# Altium footprint library Footprint-Lib-ABahlmann-IC.PcbLib: 79 footprints (part 4 of 5)
Each footprint in its own frame and in the unit in brackets; x right, y up, seen from the top. Pads: shape width x height; smd on the part's side, far side on the other; paste and mask are expansions set on the pad; w line width, h text height; cw(c..) or ccw(c..) is an arc to the next point about the centre after c.
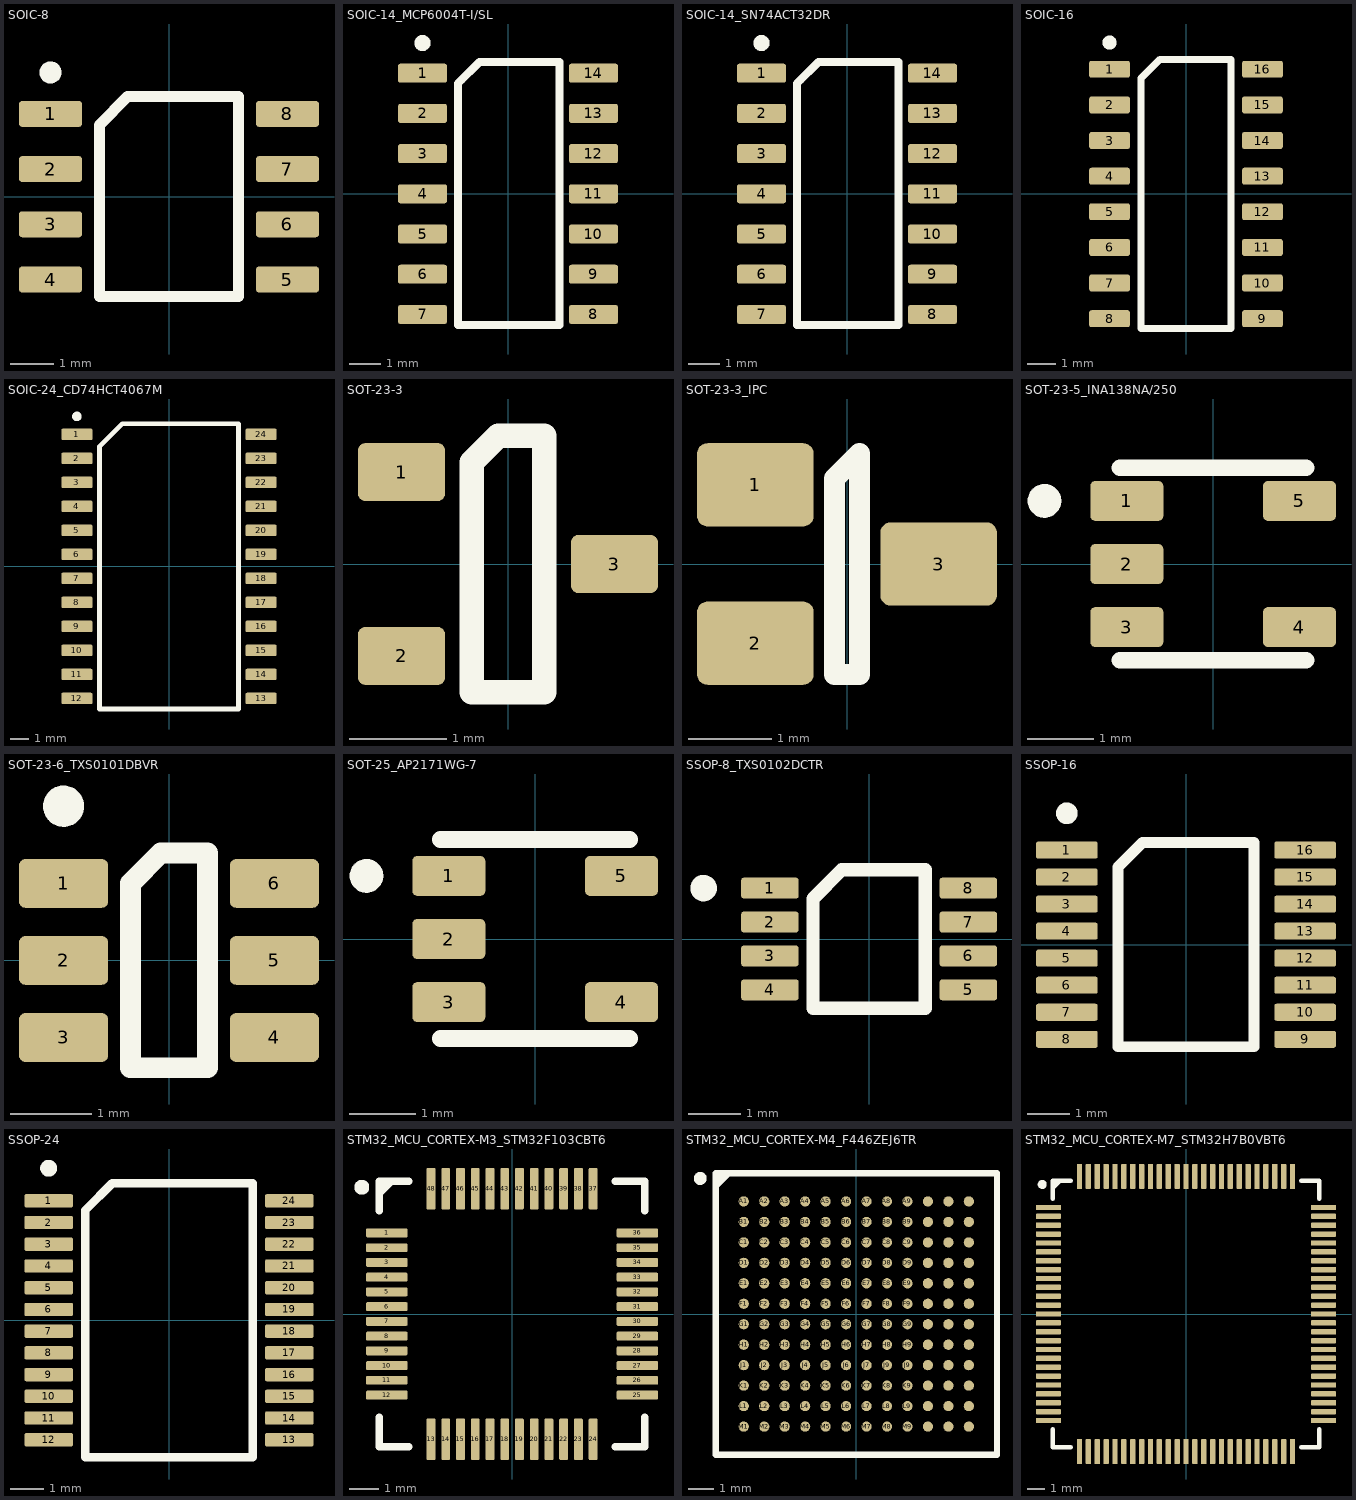
[diagram p3: the footprints below, top view; thin cyan lines are the x and y axes]

## SOIC-8 [mm] "1.27mm pitch"
pads (8):
  rrect25% 1.45x0.6 smd: 1(-2.725,1.905) 2(-2.725,0.635) 3(-2.725,-0.635) 4(-2.725,-1.905) 5(2.725,-1.905) 6(2.725,-0.635) 7(2.725,0.635) 8(2.725,1.905)
Top Overlay:
  circle w0.254: c-2.725,2.857 r0.127
  lines w0.254: -1.6,-2.3 -1.6,1.65 -0.95,2.3 1.6,2.3 1.6,-2.3 -1.6,-2.3 ; -1.5,1.75 ccw(c-1.5,1.75) -1.5,1.75
3D body "SOIC-8.STEP": height 1.51, standoff 0.01, extent -2.95,-2.45 2.95,2.45

## SOIC-14_MCP6004T-I/SL [mm] "Standard (General Purpose) Amplifier 4 Circuit Rail-to-Rail 14-SOIC"
pads (14):
  rrect25% 1.55x0.6 smd mask+0.07: 1(-2.7,3.81) 2(-2.7,2.54) 3(-2.7,1.27) 4(-2.7,0) 5(-2.7,-1.27) 6(-2.7,-2.54) 7(-2.7,-3.81) 8(2.7,-3.81) 9(2.7,-2.54) 10(2.7,-1.27) 11(2.7,0) 12(2.7,1.27) 13(2.7,2.54) 14(2.7,3.81)
Top Overlay:
  circle w0.254: c-2.7,4.763 r0.127
  lines w0.254: -1.575,-4.15 -1.575,3.49 -0.9,4.165 1.625,4.165 1.625,-4.15 -1.575,-4.15 ; -1.475,3.59 ccw(c-1.475,3.59) -1.475,3.59
3D body "MCP6004T-I_SL.STEP": height 1.75, standoff 0, extent -3,-4.325 3,4.325

## SOIC-14_SN74ACT32DR [mm] "OR Gate IC 4 Channel 14-SOIC"
pads (14):
  rrect25% 1.55x0.6 smd mask+0.07: 1(-2.7,3.81) 2(-2.7,2.54) 3(-2.7,1.27) 4(-2.7,0) 5(-2.7,-1.27) 6(-2.7,-2.54) 7(-2.7,-3.81) 8(2.7,-3.81) 9(2.7,-2.54) 10(2.7,-1.27) 11(2.7,0) 12(2.7,1.27) 13(2.7,2.54) 14(2.7,3.81)
Top Overlay:
  circle w0.254: c-2.7,4.763 r0.127
  lines w0.254: -1.575,-4.15 1.625,-4.15 1.625,4.165 -0.9,4.165 -1.575,3.49 -1.575,-4.15 ; -1.475,3.59 ccw(c-1.475,3.59) -1.475,3.59
3D body "SN74ACT32DR.stp": height 1.75, standoff 0, extent -3.013,-4.325 3.013,4.325

## SOIC-16 [mm]
pads (16):
  rrect25% 1.45x0.6 smd: 1(-2.725,4.445) 2(-2.725,3.175) 3(-2.725,1.905) 4(-2.725,0.635) 5(-2.725,-0.635) 6(-2.725,-1.905) 7(-2.725,-3.175) 8(-2.725,-4.445) 9(2.725,-4.445) 10(2.725,-3.175) 11(2.725,-1.905) 12(2.725,-0.635) 13(2.725,0.635) 14(2.725,1.905) 15(2.725,3.175) 16(2.725,4.445)
Top Overlay:
  circle w0.254: c-2.725,5.397 r0.127
  lines w0.254: -1.6,-4.8 -1.6,4.125 -0.925,4.8 1.6,4.8 1.6,-4.8 -1.6,-4.8 ; -1.5,4.225 ccw(c-1.5,4.225) -1.5,4.225
3D body "SOIC-16.STEP": height 1.5, standoff 0, extent -2.95,-4.95 2.95,4.95

## SOIC-24_CD74HCT4067M [mm] "1 Circuit IC Switch 16:1 180Ohm 24-SOIC"
pads (24):
  rrect25% 1.65x0.6 smd: 1(-4.875,6.985) 2(-4.875,5.715) 3(-4.875,4.445) 4(-4.875,3.175) 5(-4.875,1.905) 6(-4.875,0.635) 7(-4.875,-0.635) 8(-4.875,-1.905) 9(-4.875,-3.175) 10(-4.875,-4.445) 11(-4.875,-5.715) 12(-4.875,-6.985) 13(4.875,-6.985) 14(4.875,-5.715) 15(4.875,-4.445) 16(4.875,-3.175) 17(4.875,-1.905) 18(4.875,-0.635) 19(4.875,0.635) 20(4.875,1.905) 21(4.875,3.175) 22(4.875,4.445) 23(4.875,5.715) 24(4.875,6.985)
Top Overlay:
  circle w0.254: c-4.875,7.938 r0.127
  lines w0.254: -3.675,-7.55 3.675,-7.55 3.675,7.55 -2.475,7.55 -3.675,6.35 -3.675,-7.55
3D body "CD74HCT4067M.STEP": height 2.65, standoff 0, extent -5.15,-7.7 5.15,7.7

## SOT-23-3 [mm]
pads (3):
  rrect25% 0.9x0.6 smd: 1(-1.1,0.95) 2(-1.1,-0.95) 3(1.1,0)
Top Overlay:
  lines w0.254: -0.375,-1.325 -0.375,1.05 -0.1,1.325 0.375,1.325 0.375,-1.325 -0.375,-1.325
3D body "SOT23-3.stp": height 1.1, standoff 0, extent -1.25,-1.5 1.25,1.5

## SOT-23-3_IPC [mm]
pads (3):
  rrect25% 1.4x1 smd: 1(-1.1,0.95) 2(-1.1,-0.95) 3(1.1,0)
Top Overlay:
  lines w0.254: -0.15,-1.325 -0.15,1.025 0.15,1.325 0.15,-1.325 -0.15,-1.325
3D body "SOT23-3.stp": height 1.1, standoff 0, extent -1.25,-1.5 1.25,1.5

## SOT-23-5_INA138NA/250 [mm] "Current Monitor Regulator High-Side SOT-23-5"
pads (5):
  rrect25% 1.1x0.6 smd mask+0.05: 1(-1.3,0.95) 2(-1.3,0) 3(-1.3,-0.95) 4(1.3,-0.95) 5(1.3,0.95)
Top Overlay:
  circle w0.254: c-2.54,0.95 r0.127
  lines w0.254: -1.4,-1.45 1.4,-1.45 ; -1.4,1.45 1.4,1.45
3D body "INA138NA_250.STEP": height 1.45, standoff 0, extent -1.4,-1.45 1.4,1.45

## SOT-23-6_TXS0101DBVR [mm] "Voltage Level Translator Bidirectional 1 Circuit 1 Channel 24Mbps SOT-23-6"
pads (6):
  rrect25% 1.1x0.6 smd mask+0.05: 1(-1.3,0.95) 2(-1.3,0) 3(-1.3,-0.95) 4(1.3,-0.95) 5(1.3,0) 6(1.3,0.95)
Top Overlay:
  circle w0.254: c-1.3,1.903 r0.127
  lines w0.254: -0.475,-1.325 -0.475,0.95 -0.1,1.325 0.475,1.325 0.475,-1.325 -0.475,-1.325
3D body "TXS0101DBVR.STEP": height 1.45, standoff 0, extent -1.4,-1.45 1.4,1.45

## SOT-25_AP2171WG-7 [mm] "Power Switch/Driver 1:1 P-Channel 1A SOT-25"
pads (5):
  rrect25% 1.1x0.6 smd mask+0.05: 1(-1.3,0.95) 2(-1.3,0) 3(-1.3,-0.95) 4(1.3,-0.95) 5(1.3,0.95)
Top Overlay:
  circle w0.254: c-2.54,0.95 r0.127
  lines w0.254: -1.425,-1.5 1.425,-1.5 ; -1.425,1.5 1.425,1.5
3D body "AP2171WG-7.stp": height 1.4, standoff 0, extent -1.425,-1.5 1.425,1.5

## SSOP-8_TXS0102DCTR [mm]
pads (8):
  rrect25% 1.1x0.4 smd mask+0.07: 1(-1.9,0.975) 2(-1.9,0.325) 3(-1.9,-0.325) 4(-1.9,-0.975) 5(1.9,-0.975) 6(1.9,-0.325) 7(1.9,0.325) 8(1.9,0.975)
Top Overlay:
  circle w0.254: c-3.17,0.975 r0.127
  lines w0.254: -1.075,-1.325 1.075,-1.325 1.075,1.325 -0.525,1.325 -1.075,0.775 -1.075,-1.325
3D body "TXS0102DCTR.STEP": height 1.3, standoff 0, extent -2,-1.475 2,1.475

## SSOP-16 [mm] "USB Bridge, USB to UART USB 2.0 UART Interface 16-SSOP"
pads (16):
  rrect25% 1.45x0.4 smd mask+0.025: 1(-2.8,2.223) 2(-2.8,1.588) 3(-2.8,0.953) 4(-2.8,0.318) 5(-2.8,-0.318) 6(-2.8,-0.953) 7(-2.8,-1.588) 8(-2.8,-2.223) 9(2.8,-2.223) 10(2.8,-1.588) 11(2.8,-0.953) 12(2.8,-0.318) 13(2.8,0.318) 14(2.8,0.953) 15(2.8,1.588) 16(2.8,2.223)
Top Overlay:
  circle w0.254: c-2.8,3.087 r0.127
  lines w0.254: -1.6,-2.4 -1.6,1.825 -1.025,2.4 1.6,2.4 1.6,-2.4 -1.6,-2.4 ; -1.5,1.925 ccw(c-1.5,1.925) -1.5,1.925
3D body "ft230xs-r.stp": height 1.55, standoff 0, extent -2.997,-2.45 2.997,2.452

## SSOP-24 [mm]
pads (24):
  rrect25% 1.45x0.4 smd mask+0.025: 1(-3.6,3.575) 2(-3.6,2.925) 3(-3.6,2.275) 4(-3.6,1.625) 5(-3.6,0.975) 6(-3.6,0.325) 7(-3.6,-0.325) 8(-3.6,-0.975) 9(-3.6,-1.625) 10(-3.6,-2.275) 11(-3.6,-2.925) 12(-3.6,-3.575) 13(3.6,-3.575) 14(3.6,-2.925) 15(3.6,-2.275) 16(3.6,-1.625) 17(3.6,-0.975) 18(3.6,-0.325) 19(3.6,0.325) 20(3.6,0.975) 21(3.6,1.625) 22(3.6,2.275) 23(3.6,2.925) 24(3.6,3.575)
Top Overlay:
  circle w0.254: c-3.6,4.55 r0.127
  lines w0.254: -2.5,-4.1 2.5,-4.1 2.5,4.1 -1.7,4.1 -2.5,3.3 -2.5,-4.1
3D body "CD74HC4067SM96.stp": height 1.85, standoff -0.01, extent -3.913,-4.1 3.913,4.1

## STM32_MCU_CORTEX-M3_STM32F103CBT6 [mm] "ARM® Cortex®-M3 STM32F1 Microcontroller IC 32-Bit 72MHz 128KB (128K x 8) FLASH"
pads (48):
  rrect25% 1.4x0.3 smd mask+0.05: 1(-4.25,2.75) 2(-4.25,2.25) 3(-4.25,1.75) 4(-4.25,1.25) 5(-4.25,0.75) 6(-4.25,0.25) 7(-4.25,-0.25) 8(-4.25,-0.75) 9(-4.25,-1.25) 10(-4.25,-1.75) 11(-4.25,-2.25) 12(-4.25,-2.75) 25(4.25,-2.75) 26(4.25,-2.25) 27(4.25,-1.75) 28(4.25,-1.25) 29(4.25,-0.75) 30(4.25,-0.25) 31(4.25,0.25) 32(4.25,0.75) 33(4.25,1.25) 34(4.25,1.75) 35(4.25,2.25) 36(4.25,2.75)
  rrect25% 0.3x1.4 smd mask+0.05: 13(-2.75,-4.25) 14(-2.25,-4.25) 15(-1.75,-4.25) 16(-1.25,-4.25) 17(-0.75,-4.25) 18(-0.25,-4.25) 19(0.25,-4.25) 20(0.75,-4.25) 21(1.25,-4.25) 22(1.75,-4.25) 23(2.25,-4.25) 24(2.75,-4.25) 37(2.75,4.25) 38(2.25,4.25) 39(1.75,4.25) 40(1.25,4.25) 41(0.75,4.25) 42(0.25,4.25) 43(-0.25,4.25) 44(-0.75,4.25) 45(-1.25,4.25) 46(-1.75,4.25) 47(-2.25,4.25) 48(-2.75,4.25)
Top Overlay:
  circle w0.254: c-5.1,4.3 r0.127
  lines w0.254: -4.5,-3.5 -4.5,-4.5 -3.5,-4.5 ; -4.5,3.5 -4.5,4.5 -3.5,4.5 ; -4.5,4.1 -4.1,4.5 ; 3.5,-4.5 4.5,-4.5 4.5,-3.5 ; 3.5,4.5 4.5,4.5 4.5,3.5
3D body "STM32F103CBT6.stp": height 1.6, standoff 0, extent -4.5,-4.5 4.5,4.5

## STM32_MCU_CORTEX-M4_F446ZEJ6TR [mm] "ARM® Cortex®-M4 STM32F4 Microcontroller IC 32-Bit 180MHz 512KB (512K x 8) FLASH 144-UFBGA (10x10)"
pads (144):
  round 0.4 smd mask+0.075: A1(-4.4,4.4) A2(-3.6,4.4) A3(-2.8,4.4) A4(-2,4.4) A5(-1.2,4.4) A6(-0.4,4.4) A7(0.4,4.4) A8(1.2,4.4) A9(2,4.4) A10(2.8,4.4) A11(3.6,4.4) A12(4.4,4.4) B1(-4.4,3.6) B2(-3.6,3.6) B3(-2.8,3.6) B4(-2,3.6) B5(-1.2,3.6) B6(-0.4,3.6) B7(0.4,3.6) B8(1.2,3.6) B9(2,3.6) B10(2.8,3.6) B11(3.6,3.6) B12(4.4,3.6) C1(-4.4,2.8) C2(-3.6,2.8) C3(-2.8,2.8) C4(-2,2.8) C5(-1.2,2.8) C6(-0.4,2.8) C7(0.4,2.8) C8(1.2,2.8) C9(2,2.8) C10(2.8,2.8) C11(3.6,2.8) C12(4.4,2.8) D1(-4.4,2) D2(-3.6,2) D3(-2.8,2) D4(-2,2) D5(-1.2,2) D6(-0.4,2) D7(0.4,2) D8(1.2,2) D9(2,2) D10(2.8,2) D11(3.6,2) D12(4.4,2) E1(-4.4,1.2) E2(-3.6,1.2) E3(-2.8,1.2) E4(-2,1.2) E5(-1.2,1.2) E6(-0.4,1.2) E7(0.4,1.2) E8(1.2,1.2) E9(2,1.2) E10(2.8,1.2) E11(3.6,1.2) E12(4.4,1.2) F1(-4.4,0.4) F2(-3.6,0.4) F3(-2.8,0.4) F4(-2,0.4) F5(-1.2,0.4) F6(-0.4,0.4) F7(0.4,0.4) F8(1.2,0.4) F9(2,0.4) F10(2.8,0.4) F11(3.6,0.4) F12(4.4,0.4) G1(-4.4,-0.4) G2(-3.6,-0.4) G3(-2.8,-0.4) G4(-2,-0.4) G5(-1.2,-0.4) G6(-0.4,-0.4) G7(0.4,-0.4) G8(1.2,-0.4) G9(2,-0.4) G10(2.8,-0.4) G11(3.6,-0.4) G12(4.4,-0.4) H1(-4.4,-1.2) H2(-3.6,-1.2) H3(-2.8,-1.2) H4(-2,-1.2) H5(-1.2,-1.2) H6(-0.4,-1.2) H7(0.4,-1.2) H8(1.2,-1.2) H9(2,-1.2) H10(2.8,-1.2) H11(3.6,-1.2) H12(4.4,-1.2) J1(-4.4,-2) J2(-3.6,-2) J3(-2.8,-2) J4(-2,-2) J5(-1.2,-2) J6(-0.4,-2) J7(0.4,-2) J9(1.2,-2) J9(2,-2) J10(2.8,-2) J11(3.6,-2) J12(4.4,-2) K1(-4.4,-2.8) K2(-3.6,-2.8) K3(-2.8,-2.8) K4(-2,-2.8) K5(-1.2,-2.8) K6(-0.4,-2.8) K7(0.4,-2.8) K8(1.2,-2.8) K9(2,-2.8) K10(2.8,-2.8) K11(3.6,-2.8) K12(4.4,-2.8) L1(-4.4,-3.6) L2(-3.6,-3.6) L3(-2.8,-3.6) L4(-2,-3.6) L5(-1.2,-3.6) L6(-0.4,-3.6) L7(0.4,-3.6) L8(1.2,-3.6) L9(2,-3.6) L10(2.8,-3.6) L11(3.6,-3.6) L12(4.4,-3.6) M1(-4.4,-4.4) M2(-3.6,-4.4) M3(-2.8,-4.4) M4(-2,-4.4) M5(-1.2,-4.4) M6(-0.4,-4.4) M7(0.4,-4.4) M8(1.2,-4.4) M9(2,-4.4) M10(2.8,-4.4) M11(3.6,-4.4) M12(4.4,-4.4)
Top Overlay:
  circle w0.254: c-6.1,5.3 r0.127
  lines w0.254: -5.5,5 -5,5.5 ; -5.5,5.2 -5.2,5.5 ; -5.5,-5.5 5.5,-5.5 5.5,5.5 -5.5,5.5 -5.5,-5.5
3D body "STM32F446ZEJ6TR.stp": height 0.6, standoff 0, extent -5,-5 5,5

## STM32_MCU_CORTEX-M7_STM32H7B0VBT6 [mm] "ARM® Cortex®-M7 STM32H7 Microcontroller IC 32-Bit 280MHz 128KB (128K x 8) FLASH 100-LQFP (14x14)"
pads (100):
  rrect25% 1.4x0.3 smd mask+0.05: 1(-7.75,6) 2(-7.75,5.5) 3(-7.75,5) 4(-7.75,4.5) 5(-7.75,4) 6(-7.75,3.5) 7(-7.75,3) 8(-7.75,2.5) 9(-7.75,2) 10(-7.75,1.5) 11(-7.75,1) 12(-7.75,0.5) 13(-7.75,0) 14(-7.75,-0.5) 15(-7.75,-1) 16(-7.75,-1.5) 17(-7.75,-2) 18(-7.75,-2.5) 19(-7.75,-3) 20(-7.75,-3.5) 21(-7.75,-4) 22(-7.75,-4.5) 23(-7.75,-5) 24(-7.75,-5.5) 25(-7.75,-6) 51(7.75,-6) 52(7.75,-5.5) 53(7.75,-5) 54(7.75,-4.5) 55(7.75,-4) 56(7.75,-3.5) 57(7.75,-3) 58(7.75,-2.5) 59(7.75,-2) 60(7.75,-1.5) 61(7.75,-1) 62(7.75,-0.5) 63(7.75,0) 64(7.75,0.5) 65(7.75,1) 66(7.75,1.5) 67(7.75,2) 68(7.75,2.5) 69(7.75,3) 70(7.75,3.5) 71(7.75,4) 72(7.75,4.5) 73(7.75,5) 74(7.75,5.5) 75(7.75,6)
  rrect25% 0.3x1.4 smd mask+0.05: 26(-6,-7.75) 27(-5.5,-7.75) 28(-5,-7.75) 29(-4.5,-7.75) 30(-4,-7.75) 31(-3.5,-7.75) 32(-3,-7.75) 33(-2.5,-7.75) 34(-2,-7.75) 35(-1.5,-7.75) 36(-1,-7.75) 37(-0.5,-7.75) 38(0,-7.75) 39(0.5,-7.75) 40(1,-7.75) 41(1.5,-7.75) 42(2,-7.75) 43(2.5,-7.75) 44(3,-7.75) 45(3.5,-7.75) 46(4,-7.75) 47(4.5,-7.75) 48(5,-7.75) 49(5.5,-7.75) 50(6,-7.75) 76(6,7.75) 77(5.5,7.75) 78(5,7.75) 79(4.5,7.75) 80(4,7.75) 81(3.5,7.75) 82(3,7.75) 83(2.5,7.75) 84(2,7.75) 85(1.5,7.75) 86(1,7.75) 87(0.5,7.75) 88(0,7.75) 89(-0.5,7.75) 90(-1,7.75) 91(-1.5,7.75) 92(-2,7.75) 93(-2.5,7.75) 94(-3,7.75) 95(-3.5,7.75) 96(-4,7.75) 97(-4.5,7.75) 98(-5,7.75) 99(-5.5,7.75) 100(-6,7.75)
Top Overlay:
  circle w0.254: c-8.1,7.3 r0.127
  lines w0.254: -7.5,-6.5 -7.5,-7.5 -6.5,-7.5 ; -7.5,6.5 -7.5,7.5 -6.5,7.5 ; -7.5,7.1 -7.1,7.5 ; 6.5,-7.5 7.5,-7.5 7.5,-6.5 ; 6.5,7.5 7.5,7.5 7.5,6.5
3D body "STM32H7B0VBT6.stp": height 1.6, standoff 0, extent -8,-8 8,8